# Altium schematic symbol library fuse_1206.SchLib: 1 symbol
Pins are listed as number, name and electrical type; pins without a type are passive.

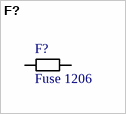
[diagram p0: symbol F?]

## F?
designator F?, comment Fuse 1206
footprint PCBComponent_1
pins: 1, 2